# Altium footprint library PCB1.PcbLib: 3 footprints
Each footprint in its own frame and in the unit in brackets; x right, y up, seen from the top. Pads: shape width x height; smd on the part's side, far side on the other; paste and mask are expansions set on the pad; w line width, h text height; cw(c..) or ccw(c..) is an arc to the next point about the centre after c.
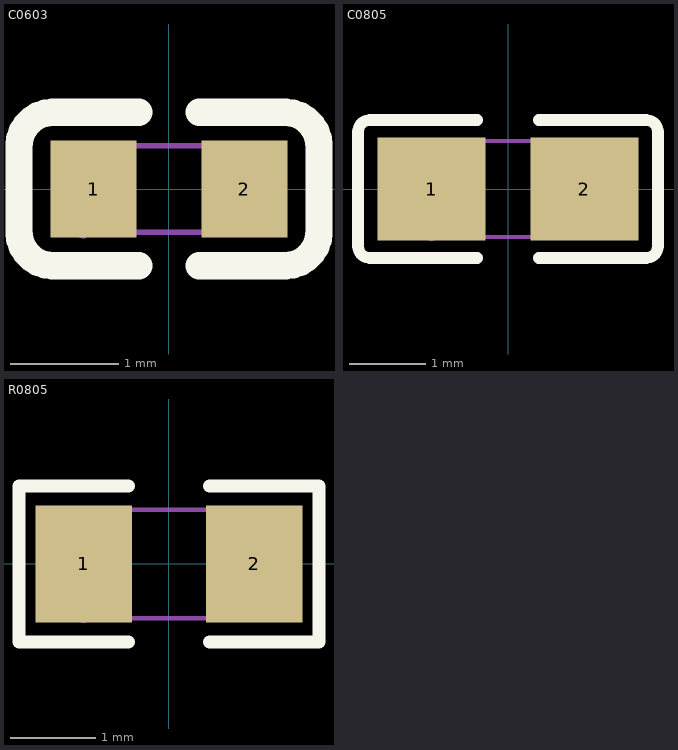
[diagram p0: the footprints below, top view; thin cyan lines are the x and y axes]

## C0603 [mil]
pads (2):
  rect 31.5x35.4 smd: 1(-27.5,0) 2(27.6,0)
Top Overlay:
  lines w10: -11,-27.9 -42.5,-27.9 -45.2,-27.6 -47.8,-26.7 -50.1,-25.2 -52,-23.3 -53.5,-21 -54.4,-18.4 -54.7,-15.7 -54.7,15.8 -54.4,18.5 -53.5,21.1 -52,23.4 -50.1,25.3 -47.8,26.8 -45.2,27.7 -42.5,28 -11,28 ; 11.1,-27.9 42.6,-27.9 45.3,-27.6 47.9,-26.7 50.2,-25.2 52.1,-23.3 53.6,-21 54.5,-18.4 54.8,-15.7 54.8,15.8 54.5,18.5 53.6,21.1 52.1,23.4 50.2,25.3 47.9,26.8 45.3,27.7 42.6,28 11.1,28
Mechanical 7:
  lines w2: -31.5,-15.7 -31.5,15.8 31.5,15.8 31.5,-15.7 -31.5,-15.7
Mechanical 8:
  region: -29.1,-15.7 -29.5,-17 -30.5,-17.9 -31.8,-18 -33,-17.5 -33.7,-16.4 -33.7,-15 -33,-13.9 -31.8,-13.4 -30.5,-13.6 -29.5,-14.4
Mechanical 9:
  region: -31.5,-15.7 -31.5,15.8 -19.6,15.8 -19.6,-15.7
  region: 31.5,-15.7 31.5,15.8 19.7,15.8 19.7,-15.7

## C0805 [mil]
pads (2):
  rect 55.5x53.1 smd paste-3937 mask+2: 1(-39.4,0) 2(39.4,0)
Top Overlay:
  lines w6: -15.8,-35.5 -71.3,-35.5 -73.2,-35.2 -74.8,-34.4 -76.2,-33.1 -77,-31.4 -77.3,-29.5 -77.3,29.6 -77,31.5 -76.2,33.1 -74.8,34.5 -73.2,35.3 -71.3,35.6 -15.8,35.6 ; 15.8,-35.5 71.3,-35.5 73.2,-35.2 74.8,-34.4 76.2,-33.1 77,-31.4 77.3,-29.5 77.3,29.6 77,31.5 76.2,33.1 74.8,34.5 73.2,35.3 71.3,35.6 15.8,35.6
Top Paste:
  region: 67.1,25.2 67.1,-25.2 65.2,-27.1 19.9,-27.1 17.9,-25.2 17.7,-9 35.4,-9 35.4,8.7 18.1,8.7 17.9,25.2 19.9,27.2 65.2,27.2
  region: -67.1,-25.2 -67.1,25.2 -65.1,27.2 -19.9,27.2 -17.9,25.2 -17.7,9.1 -35.4,9.1 -35.4,-8.6 -18.1,-8.6 -17.9,-25.2 -19.9,-27.1 -65.1,-27.1
Mechanical 7:
  lines w2: -39.4,-24.6 39.4,-24.6 39.4,24.7 -39.4,24.7 -39.4,-24.6
Mechanical 8:
  region: -37,-24.6 -37.4,-25.8 -38.4,-26.7 -39.7,-26.9 -40.9,-26.3 -41.6,-25.2 -41.6,-23.9 -40.9,-22.8 -39.7,-22.2 -38.4,-22.4 -37.4,-23.3
Mechanical 9:
  region: 39.4,24.7 39.4,-24.6 19.7,-24.6 19.7,24.7
  region: -39.4,-24.6 -39.4,24.7 -19.7,24.7 -19.7,-24.6

## R0805 [mm]
pads (2):
  rect 1.133x1.377 smd paste-100 mask+0.051: 1(-0.998,0) 2(1.001,0)
Top Overlay:
  lines w0.152: -0.475,-0.917 -1.76,-0.917 -1.76,0.917 -0.475,0.917 ; 0.478,-0.917 1.763,-0.917 1.763,0.917 0.478,0.917
Top Paste:
  region: 0.452,-0.64 0.452,-0.221 0.897,-0.221 0.897,0.231 0.457,0.231 0.452,0.64 0.5,0.691 1.651,0.691 1.702,0.64 1.702,-0.64 1.651,-0.691 0.5,-0.691
  region: -1.699,-0.64 -1.699,0.64 -1.648,0.691 -0.498,0.691 -0.45,0.64 -0.445,0.231 -0.894,0.231 -0.894,-0.221 -0.455,-0.221 -0.45,-0.64 -0.498,-0.691 -1.648,-0.691
Mechanical 7:
  lines w0.051: -0.998,-0.638 1.001,-0.638 1.001,0.638 -0.998,0.638 -0.998,-0.638
Mechanical 8:
  region: -0.94,-0.638 -0.947,-0.671 -0.975,-0.691 -1.008,-0.696 -1.039,-0.683 -1.057,-0.655 -1.057,-0.62 -1.039,-0.592 -1.008,-0.579 -0.975,-0.584 -0.947,-0.605
Mechanical 9:
  region: 1.001,-0.638 1.001,0.638 0.602,0.638 0.602,-0.638
  region: -0.998,-0.638 -0.998,0.638 -0.599,0.638 -0.599,-0.638